# Altium schematic symbol library Passive.SchLib: 7 symbols
Pins are listed as number, name and electrical type; pins without a type are passive.

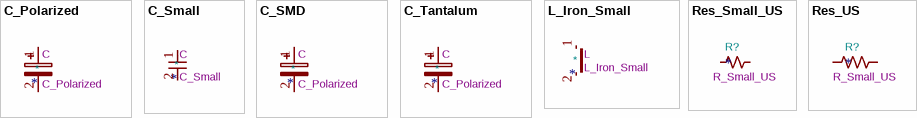
[diagram p0: symbols C_Polarized to Res_US]

## C_Polarized
designator *  value C_Polarized  Reference: C
Polarized capacitor; Datasheet: ~
footprint CP_EIA-1608-08_AVX-J
footprint CP_EIA-1608-10_AVX-L
footprint CP_EIA-1608-08_AVX-J
footprint CP_EIA-2012-12_Kemet-R
pins: 1, 2

## C_Small
designator *  value C_Small  Reference: C
Unpolarized capacitor, small symbol; Datasheet: ~; Description_: Unpolarized capacitor, small symbol
footprint C_0201_0603Metric
footprint C_0402_1005Metric
footprint C_0603_1608Metric
footprint C_0805_2012Metric
footprint C_1206_3216Metric
footprint C_0504_1310Metric
footprint C_01005_0402Metric
footprint C_1210_3225Metric
footprint C_1808_4520Metric
footprint C_1812_4532Metric
footprint C_1825_4564Metric
footprint C_2220_5750Metric
footprint C_2225_5664Metric
footprint C_3640_9110Metric
pins: 1, 2

## C_SMD
designator *  value C_Polarized  Reference: C
SMD Capacitor; Datasheet: ~
footprint C_01005_0402Metric
footprint C_0201_0603Metric
footprint C_0402_1005Metric
footprint C_0504_1310Metric
footprint C_0603_1608Metric
footprint C_0805_2012Metric
footprint C_1206_3216Metric
footprint C_1210_3225Metric
footprint C_1808_4520Metric
footprint C_1812_4532Metric
footprint C_1825_4564Metric
footprint C_2220_5750Metric
footprint C_2225_5664Metric
footprint C_3640_9110Metric
footprint C_Elec_10x10.2
footprint C_Elec_3x5.4
footprint C_Elec_4x5.4
footprint C_Elec_4x5.8
footprint C_Elec_5x5.4
footprint C_Elec_5x5.8
footprint C_Elec_6.3x5.4
footprint C_Elec_6.3x5.8
footprint C_Elec_6.3x7.7
footprint C_Elec_8x10.2
footprint C_Elec_8x5.4
footprint C_Elec_8x5.4
footprint C_Elec_8x5.4
footprint C_Elec_8x6.2
footprint C_Trimmer_Murata_TZB4-A
footprint C_Trimmer_Murata_TZB4-B
footprint C_Trimmer_Murata_TZC3
footprint C_Trimmer_Murata_TZR1
footprint C_Trimmer_Murata_TZW4
footprint C_Trimmer_Murata_TZY2
footprint C_Trimmer_Sprague-Goodman_SGC3
footprint C_Trimmer_Voltronics_JN
footprint C_Trimmer_Voltronics_JQ
footprint C_Trimmer_Voltronics_JR
footprint C_Trimmer_Voltronics_JV
footprint C_Trimmer_Voltronics_JZ
footprint CP_Elec_10x10
footprint CP_Elec_10x10.5
footprint CP_Elec_10x12.5
footprint CP_Elec_10x12.6
footprint CP_Elec_10x14.3
footprint CP_Elec_10x7.7
footprint CP_Elec_10x7.9
footprint CP_Elec_16x17.5
footprint CP_Elec_16x22
footprint CP_Elec_18x17.5
footprint CP_Elec_18x22
footprint CP_Elec_3x5.3
footprint CP_Elec_3x5.4
footprint CP_Elec_4x3
footprint CP_Elec_4x3.9
footprint CP_Elec_4x4.5
footprint CP_Elec_4x5.3
footprint CP_Elec_4x5.4
footprint CP_Elec_4x5.7
footprint CP_Elec_4x5.8
footprint CP_Elec_5x3
footprint CP_Elec_5x3.9
footprint CP_Elec_5x4.4
footprint CP_Elec_5x4.5
footprint CP_Elec_5x5.3
footprint CP_Elec_5x5.4
footprint CP_Elec_5x5.7
footprint CP_Elec_5x5.8
footprint CP_Elec_5x5.9
footprint CP_Elec_6.3x3
footprint CP_Elec_6.3x3.9
footprint CP_Elec_6.3x4.5
footprint CP_Elec_6.3x4.9
footprint CP_Elec_6.3x5.2
footprint CP_Elec_6.3x5.3
footprint CP_Elec_6.3x5.4
footprint CP_Elec_6.3x5.4_Nichicon
footprint CP_Elec_6.3x5.7
footprint CP_Elec_6.3x5.8
footprint CP_Elec_6.3x5.9
footprint CP_Elec_6.3x7.7
footprint CP_Elec_6.3x9.9
footprint CP_Elec_8x10
footprint CP_Elec_8x10.5
footprint CP_Elec_8x11.9
footprint CP_Elec_8x5.4
footprint CP_Elec_8x6.2
footprint CP_Elec_8x6.5
footprint CP_Elec_8x6.7
footprint CP_Elec_8x6.9
footprint CP_Elec_CAP-XX_DMF3Zxxxxxxxx3D
pins: 1, 2

## C_Tantalum
designator *  value C_Polarized  Reference: C
Tantalum capacitor; Datasheet: ~
footprint CP_EIA-1608-08_AVX-J
footprint CP_EIA-1608-10_AVX-L
footprint CP_EIA-2012-12_Kemet-R
footprint CP_EIA-2012-15_AVX-P
footprint CP_EIA-3216-10_Kemet-I
footprint CP_EIA-3216-12_Kemet-S
footprint CP_EIA-3216-18_Kemet-A
footprint CP_EIA-3528-12_Kemet-T
footprint CP_EIA-3528-15_AVX-H
footprint CP_EIA-3528-21_Kemet-B
footprint CP_EIA-6032-15_Kemet-U
footprint CP_EIA-6032-20_AVX-F
footprint CP_EIA-6032-28_Kemet-C
footprint CP_EIA-7132-20_AVX-U
footprint CP_EIA-7132-28_AVX-C
footprint CP_EIA-7260-15_AVX-R
footprint CP_EIA-7260-20_AVX-M
footprint CP_EIA-7260-28_AVX-M
footprint CP_EIA-7260-38_AVX-R
footprint CP_EIA-7343-15_Kemet-W
footprint CP_EIA-7343-20_Kemet-V
footprint CP_EIA-7343-30_AVX-N
footprint CP_EIA-7343-43_Kemet-X
footprint CP_EIA-7343-31_Kemet-D
footprint CP_EIA-7360-38_Kemet-E
footprint CP_EIA-7343-40_Kemet-Y
footprint CP_EIA-7361-38_AVX-V
footprint CP_EIA-7361-438_AVX-U
pins: 1, 2

## L_Iron_Small
designator *  value L_Iron_Small  Reference: L
Inductor with iron core, small symbol; Datasheet: ~; Description_: Inductor with iron core, small symbol
footprint L_0201_0603Metric
footprint L_0402_1005Metric
footprint L_0603_1608Metric
footprint L_0805_2012Metric
footprint L_1008_2520Metric
footprint L_1206_3216Metric
footprint L_1210_3225Metric
footprint R_1218_3246Metric
footprint L_1806_4516Metric
pins: 1, 2

## Res_Small_US
designator R?  value R_Small_US
Resistor, small US symbol; Datasheet: ~; Description_: Resistor, small US symbol
footprint R_0603_1608Metric
footprint R_0201_0603Metric
footprint R_0402_1005Metric
footprint R_0508_1220Metric
footprint R_0612_1632Metric
footprint R_0805_2012Metric
footprint R_0815_2038Metric
footprint R_01005_0402Metric
footprint R_1020_2550Metric
footprint R_1206_3216Metric
footprint R_1210_3225Metric
footprint R_1218_3246Metric
footprint R_1225_3264Metric
footprint R_1812_4532Metric
footprint R_2010_5025Metric
footprint R_2512_6332Metric
footprint R_2816_7142Metric
footprint R_4020_10251Metric
footprint R_MELF_MMB-0207
footprint R_MicroMELF_MMU-0102
footprint R_MiniMELF_MMA-0204
pins: 1, 2

## Res_US
designator R?  value R_Small_US
Resistor, small US symbol; Datasheet: ~; Description_: Resistor, small US symbol
footprint R_0603_1608Metric
footprint R_0201_0603Metric
footprint R_0402_1005Metric
footprint R_0508_1220Metric
footprint R_0612_1632Metric
footprint R_0805_2012Metric
footprint R_0815_2038Metric
footprint R_01005_0402Metric
footprint R_1020_2550Metric
footprint R_1206_3216Metric
footprint R_1210_3225Metric
footprint R_1218_3246Metric
footprint R_1225_3264Metric
footprint R_1812_4532Metric
footprint R_2010_5025Metric
footprint R_2512_6332Metric
footprint R_2816_7142Metric
footprint R_4020_10251Metric
footprint R_MELF_MMB-0207
footprint R_MicroMELF_MMU-0102
footprint R_MiniMELF_MMA-0204
pins: 1, 2